# Altium schematic symbol library ASM2464PD.SchLib: 44 symbols
Pins are listed as number, name and electrical type; pins without a type are passive.

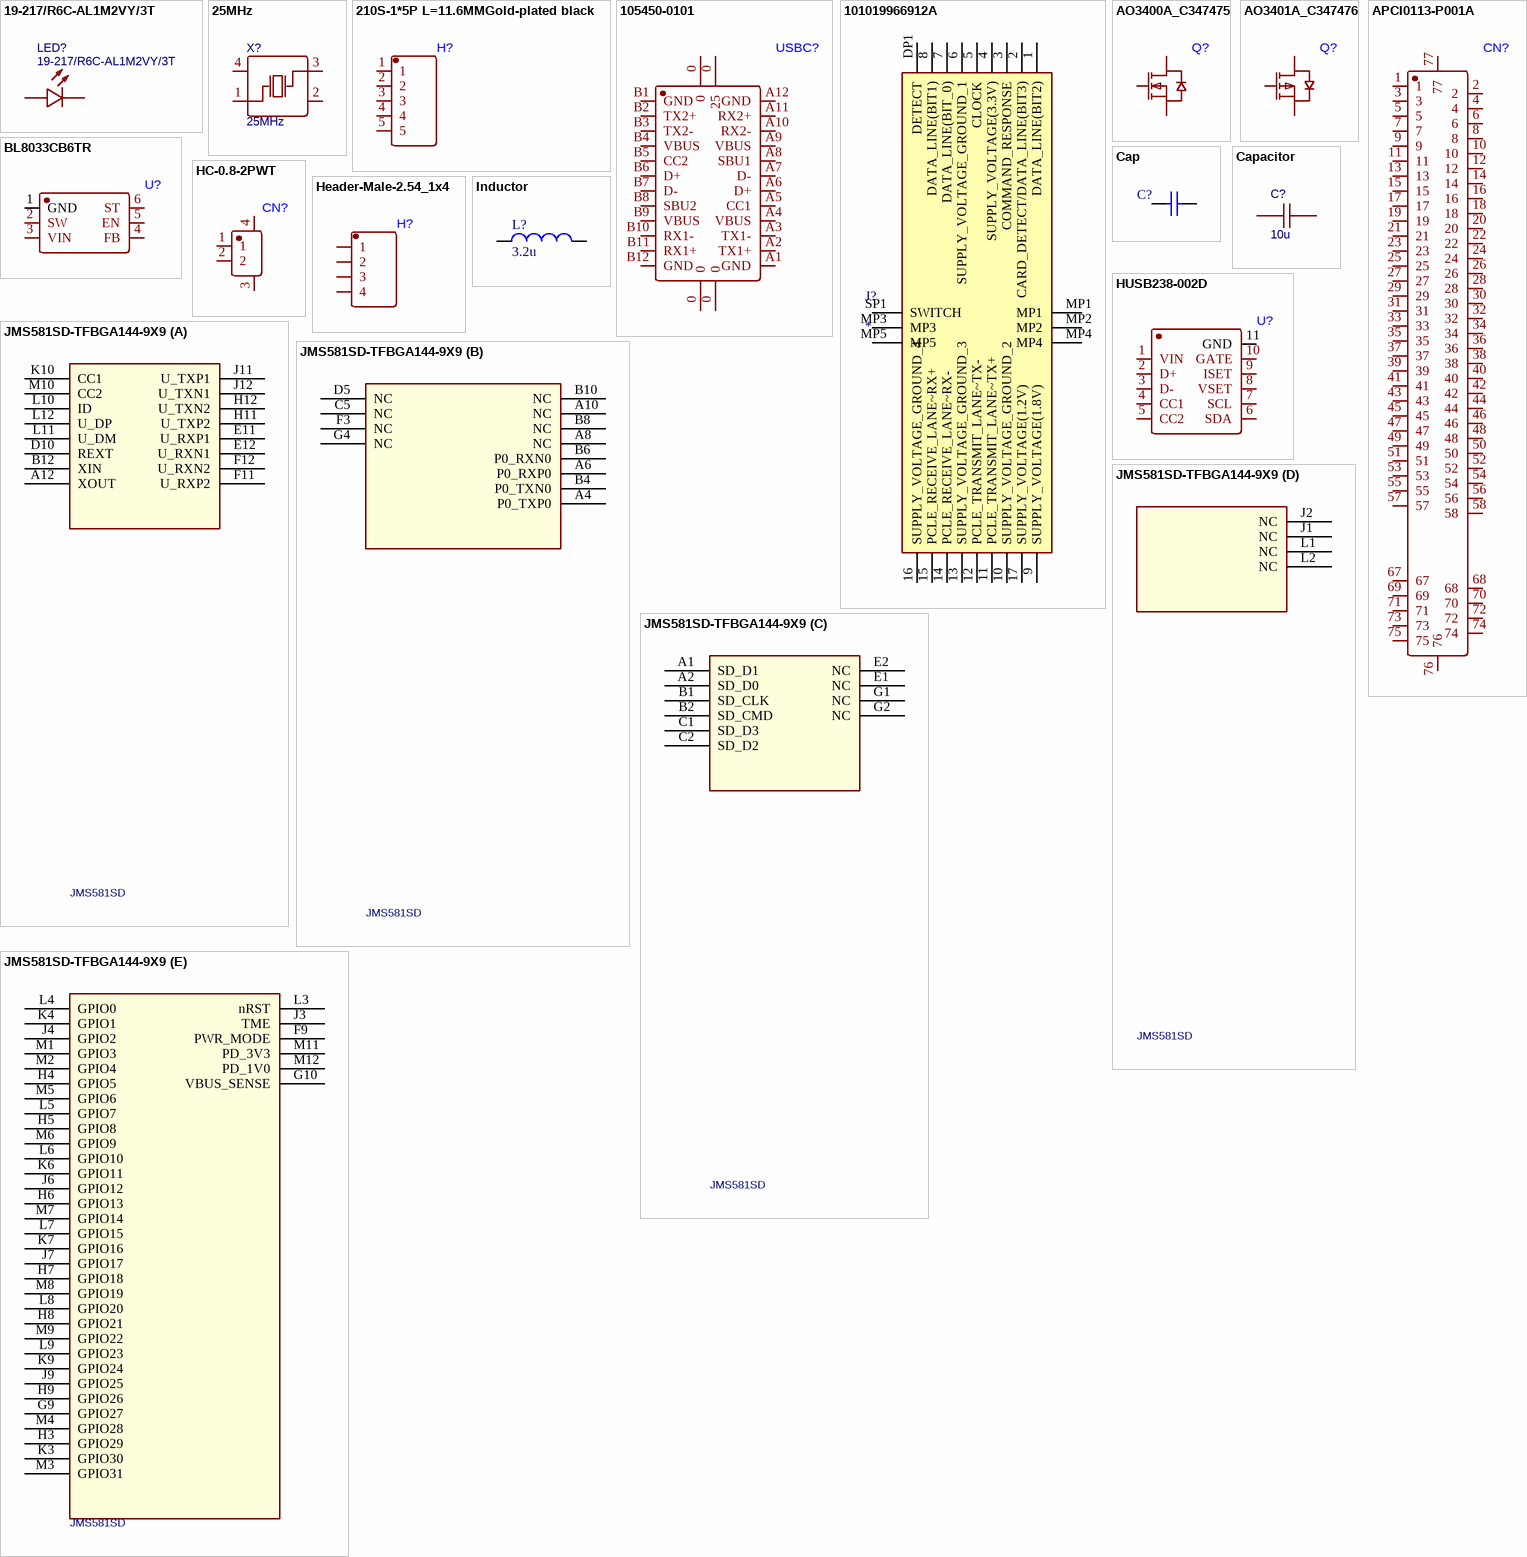
[diagram p0: symbols 19-217/R6C-AL1M2VY/3T to JMS581SD-TFBGA144-9X9]

## 19-217/R6C-AL1M2VY/3T
designator LED?
BOM_Manufacturer: EVERLIGHT; SMT Type: Extend; BOM_Supplier: LCSC; BOM_Manufacturer Part: 19-217/R6C-AL1M2VY/3T; image: //image.lceda.cn/szlcsc/C72044.jpg; BOM_Supplier Part: C72044; BOM_LCSC Assembly: Yes; spicePre: L; spiceSymbolName: 19-217/R6C-AL1M2VY/3T
footprint LED0603-R-RD
footprint LED0402-RD
pins: 1 A, 2 C

## 25MHz
designator X?
BOM_Manufacturer: YXC; BOM_Manufacturer Part: X322525MSB4SI; nameAlias: Frequency; SMT Type: Extend; BOM_Supplier: LCSC; BOM_Supplier Part: C13740; BOM_LCSC Assembly: Yes; spicePre: X; spiceSymbolName: X322525MSB4SI
footprint OSC-SMD_4P-L3.2-W2.5-BL
footprint Model Name (Model Description)
pins: 1 OSC1, 2 GND, 3 OSC2, 4 GND

## 210S-1*5P L=11.6MMGold-plated black
designator H?
footprint HDR-TH_5P-P2.54-V-M
pins: 1, 2, 3, 4, 5

## 105450-0101
designator USBC?
footprint USB-C-SMD_TYPE-C-USB-18
pins: 0, 0 25, 0, 0, A1 GND, A2 TX1+, A3 TX1-, A4 VBUS, A5 CC1, A6 D+, A7 D-, A8 SBU1, A9 VBUS, A10 RX2-, A11 RX2+, A12 GND, B1 GND, B2 TX2+, B3 TX2-, B4 VBUS, B5 CC2, B6 D+, B7 D-, B8 SBU2, B9 VBUS, B10 RX1-, B11 RX1+, B12 GND

## 101019966912A
designator J?
Connector; Manufacturer_Name: Amphenol; Manufacturer_Part_Number: 101019966912A; Datasheet Link: https://cdn.amphenol-icc.com/media/wysiwyg/files/drawing/c10101996.pdf; Height: 1.65mm
footprint 101019966912A
pins: 1 DATA_LINE(BIT2), 2 CARD_DETECT/DATA_LINE(BIT3), 3 COMMAND_RESPONSE, 4 SUPPLY_VOLTAGE(3.3V), 5 CLOCK, 6 SUPPLY_VOLTAGE_GROUND_1, 7 DATA_LINE(BIT_0), 8 DATA_LINE(BIT1), 9 SUPPLY_VOLTAGE(1.8V), 10 SUPPLY_VOLTAGE_GROUND_2, 11 PCLE_TRANSMIT_LANE~TX+, 12 PCLE_TRANSMIT_LANE~TX-, 13 SUPPLY_VOLTAGE_GROUND_3, 14 PCLE_RECEIVE_LANE~RX-, 15 PCLE_RECEIVE_LANE~RX+, 16 SUPPLY_VOLTAGE_GROUND_4, 17 SUPPLY_VOLTAGE(1.2V), DP1 DETECT, MP1, MP2, MP3, MP4, MP5, SP1 SWITCH

## AO3400A_C347475
designator Q?
footprint SOT-23-3_L2.9-W1.3-P1.90-LS2.4-BR
pins: 1 G, 2 S, 3 D

## AO3401A_C347476
designator Q?
footprint SOT-23_L2.9-W1.3-P1.90-LS2.4-BR
pins: 1 G, 2 S, 3 D

## APCI0113-P001A
designator CN?
footprint CONN-SMD_APCI0113-P001A
pins: 1, 2, 3, 4, 5, 6, 7, 8, 9, 10, 11, 12, 13, 14, 15, 16, 17, 18, 19, 20, 21, 22, 23, 24, 25, 26, 27, 28, 29, 30, 31, 32, 33, 34, 35, 36, 37, 38, 39, 40, 41, 42, 43, 44, 45, 46, 47, 48, 49, 50, 51, 52, 53, 54, 55, 56, 57, 58, 67, 68, 69, 70, 71, 72, 73, 74, 75, 76, 77

## BL8033CB6TR
designator U?
footprint SOT-23-6_L2.9-W1.6-P0.95-LS2.8-BR
pins: 1 GND, 2 SW, 3 VIN, 4 FB, 5 EN, 6 ST

## Cap
designator C?  (value not drawn)
Capacitor; Published: 8-Jun-2000; LatestRevisionDate: 17-Jul-2002; LatestRevisionNote: Re-released for DXP Platform.; PackageReference: RAD-0.3; Publisher: Altium Limited; PackageDescription: Radial Cap, Thru-Hole; 2 Leads; 0.3 in Pin Spacing
footprint C0603
pins: 1, 2

## Capacitor
designator C?, comment 10u
BOM_Manufacturer: SAMSUNG; BOM_Manufacturer Part: CL10B104KB8NNNC; nameAlias: Capacitance; BOM_Supplier: LCSC; BOM_Supplier Part: C1591; spicePre: C; spiceSymbolName: CL10B104KB8NNNC
footprint C0402
pins: 1, 2

## HC-0.8-2PWT
designator CN?
footprint CONN-SMD_2P-P0.80_HCTL_HC-0.8-2PWT
pins: 1, 2, 3, 4

## Header-Male-2.54_1x4
designator H?
footprint HDR-TH_4P-P2.54-V-M
pins: 1, 2, 3, 4

## HUSB238-002D
designator U?
footprint TDFN-10_L3.0-W3.0-P0.50-BL-EP
pins: 1 VIN, 2 D+, 3 D-, 4 CC1, 5 CC2, 6 SDA, 7 SCL, 8 VSET, 9 ISET, 10 GATE, 11 GND

## Inductor
designator L?, comment 3.2u
Inductor; Code_IEC: 1005; Published: 8-Jun-2000; LatestRevisionDate: 29-May-2009; LatestRevisionNote: IPC-7351 Footprint Added.; PackageReference: 0402-A; Publisher: Altium Limited; PackageDescription: Chip Inductor; Code_JEITA: 0402
footprint IND-SMD_L7.3-W6.8
footprint INDC1608L (Chip Inductor, Body 1.6x0.8mm, IPC High Density)
footprint 2029 (Chip Inductor, Body 2.0x1.2mm, IPC High Density)
footprint 0603 (Chip Inductor, Body 0.6x0.3mm, IPC High Density)
footprint INDC3216 (Chip Inductor, Body 3.2x1.6mm, IPC High Density)
footprint INDC4532 (Chip Inductor, Body 4.5x3.2mm, IPC High Density)
simulation model INDUCTOR (Inductor)
signal-integrity model Inductor
pins: 1, 2

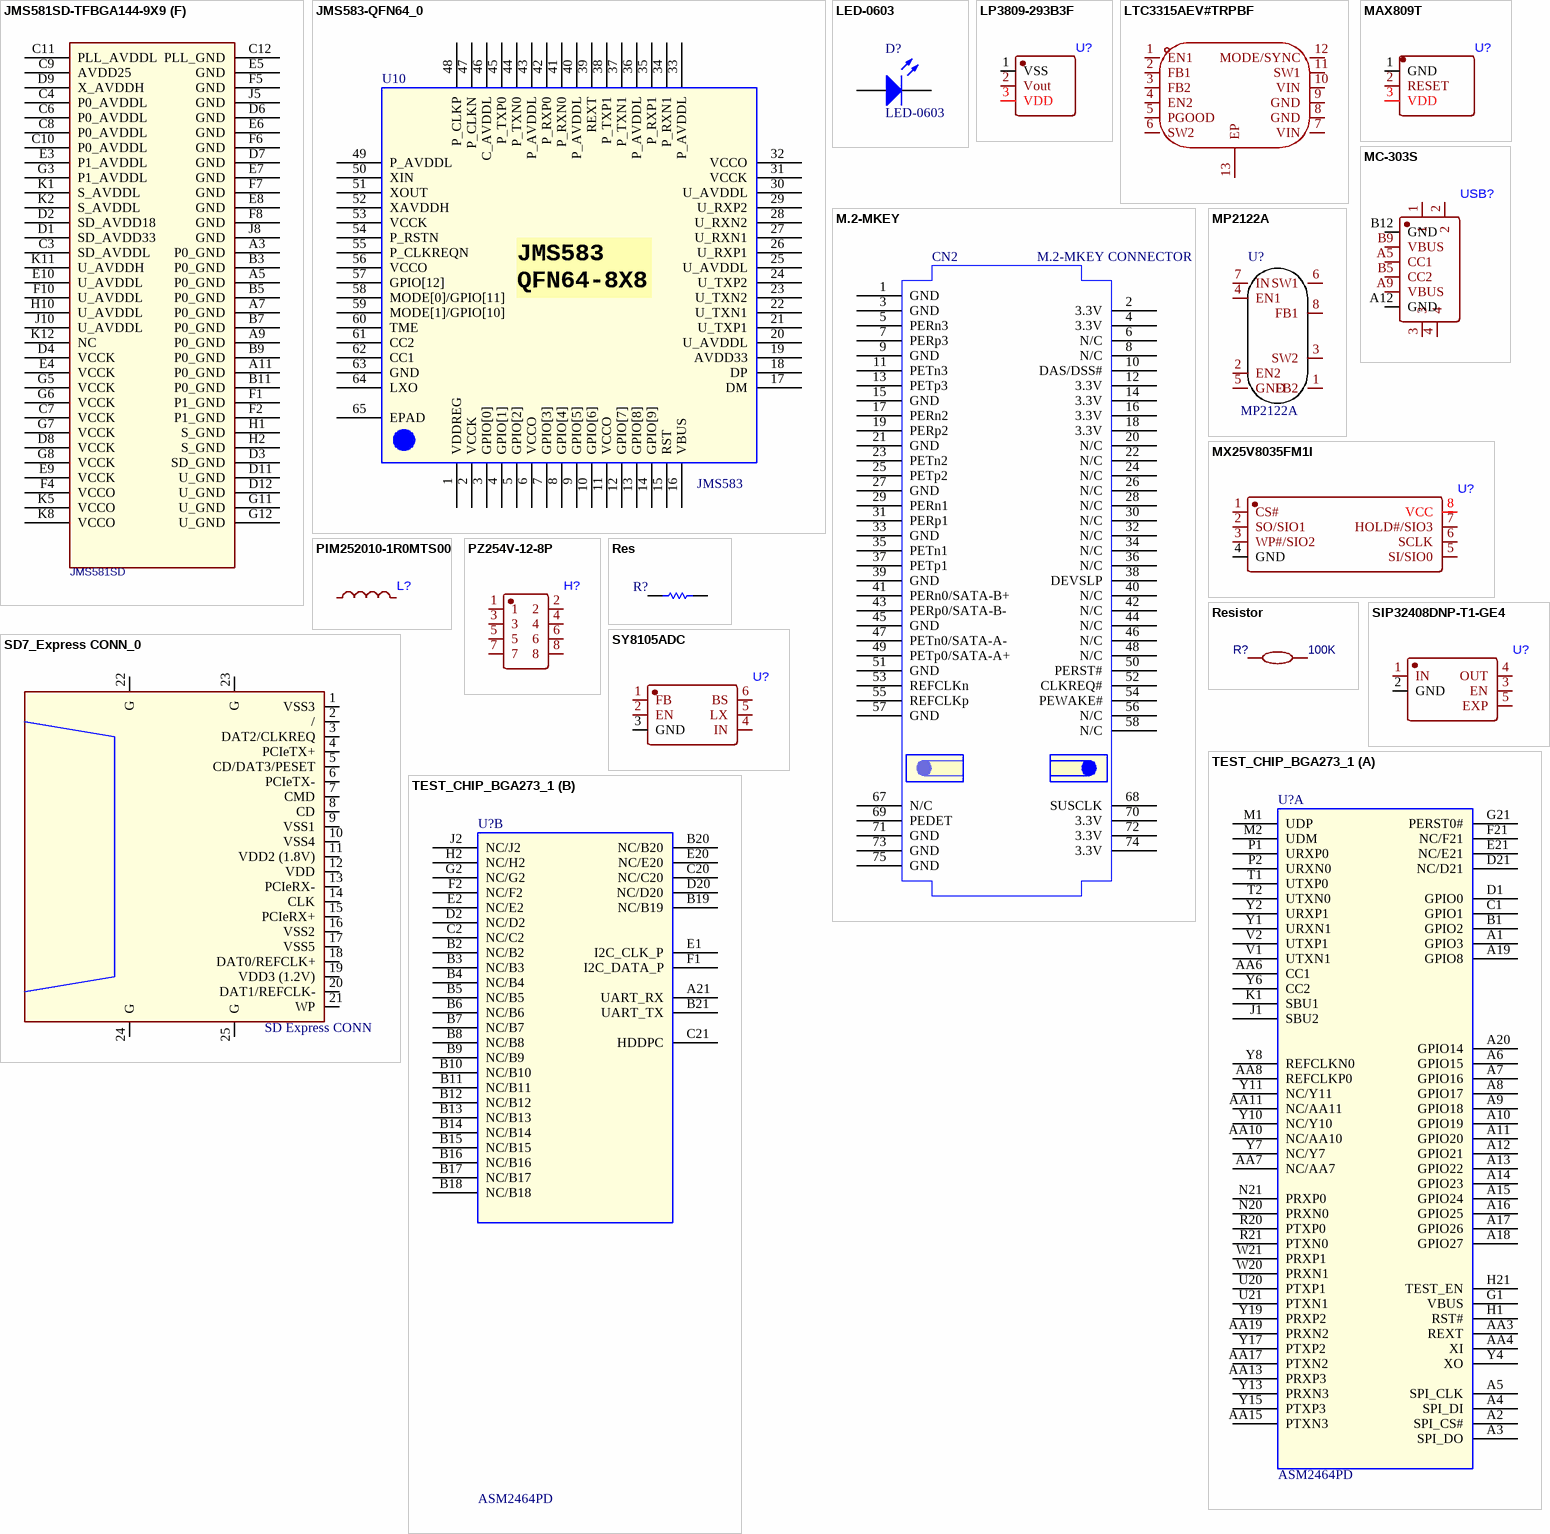
[diagram p1: symbols JMS581SD-TFBGA144-9X9 to TEST_CHIP_BGA273_1]

## JMS581SD-TFBGA144-9X9
designator U?, comment JMS581SD
SWAP_INFO: (S1+S2+S3+S4+S5+S6); SPLIT_INST: TRUE
footprint BGA144C75P12X12_900X900X117 (BGA, 144-Leads, Body 9.00x9.00mmx1.17mm, Pitch 0.75mm)
part A pins: A12 XOUT, B12 XIN, D10 REXT, E11 U_RXP1, E12 U_RXN1, F11 U_RXP2, F12 U_RXN2, H11 U_TXP2, H12 U_TXN2, J11 U_TXP1, J12 U_TXN1, K10 CC1, L10 ID, L11 U_DM, L12 U_DP, M10 CC2
part B pins: A4 P0_TXP0, A6 P0_RXP0, A8 NC, A10 NC, B4 P0_TXN0, B6 P0_RXN0, B8 NC, B10 NC, C5 NC, D5 NC, F3 NC, G4 NC
part C pins: A1 SD_D1, A2 SD_D0, B1 SD_CLK, B2 SD_CMD, C1 SD_D3, C2 SD_D2, E1 NC, E2 NC, G1 NC, G2 NC
part D pins: J1 NC, J2 NC, L1 NC, L2 NC
part E pins: F9 PWR_MODE, G9 GPIO27, G10 VBUS_SENSE, H3 GPIO29, H4 GPIO5, H5 GPIO8, H6 GPIO13, H7 GPIO18, H8 GPIO21, H9 GPIO26, J3 TME, J4 GPIO2, J6 GPIO12, J7 GPIO17, J9 GPIO25, K3 GPIO30, K4 GPIO1, K6 GPIO11, K7 GPIO16, K9 GPIO24, L3 nRST, L4 GPIO0, L5 GPIO7, L6 GPIO10, L7 GPIO15, L8 GPIO20, L9 GPIO23, M1 GPIO3, M2 GPIO4, M3 GPIO31, M4 GPIO28, M5 GPIO6, M6 GPIO9, M7 GPIO14, M8 GPIO19, M9 GPIO22, M11 PD_3V3, M12 PD_1V0
part F pins: A3 P0_GND, A5 P0_GND, A7 P0_GND, A9 P0_GND, A11 P0_GND, B3 P0_GND, B5 P0_GND, B7 P0_GND, B9 P0_GND, B11 P0_GND, C3 SD_AVDDL, C4 P0_AVDDL, C6 P0_AVDDL, C7 VCCK, C8 P0_AVDDL, C9 AVDD25, C10 P0_AVDDL, C11 PLL_AVDDL, C12 PLL_GND, D1 SD_AVDD33, D2 SD_AVDD18, D3 SD_GND, D4 VCCK, D6 GND, D7 GND, D8 VCCK, D9 X_AVDDH, D11 U_GND, D12 U_GND, E3 P1_AVDDL, E4 VCCK, E5 GND, E6 GND, E7 GND, E8 GND, E9 VCCK, E10 U_AVDDL, F1 P1_GND, F2 P1_GND, F4 VCCO, F5 GND, F6 GND, F7 GND, F8 GND, F10 U_AVDDL, G3 P1_AVDDL, G5 VCCK, G6 VCCK, G7 VCCK, G8 VCCK, G11 U_GND, G12 U_GND, H1 S_GND, H2 S_GND, H10 U_AVDDL, J5 GND, J8 GND, J10 U_AVDDL, K1 S_AVDDL, K2 S_AVDDL, K5 VCCO, K8 VCCO, K11 U_AVDDH, K12 NC

## JMS583-QFN64_0
designator U10, comment JMS583
PCB Footprint: QFN64-8X8-1
footprint QFN40P800X800X90_HS-65N (QFN, 64-Leads, Body 8.00x8.00mm, Pitch 0.40mm, Thermal Pad 4.46x4.46mm, IPC Medium Density)
pins: 1 VDDREG, 2 VCCK, 3 GPIO[0], 4 GPIO[1], 5 GPIO[2], 6 VCCO, 7 GPIO[3], 8 GPIO[4], 9 GPIO[5], 10 GPIO[6], 11 VCCO, 12 GPIO[7], 13 GPIO[8], 14 GPIO[9], 15 RST, 16 VBUS, 17 DM, 18 DP, 19 AVDD33, 20 U_AVDDL, 21 U_TXP1, 22 U_TXN1, 23 U_TXN2, 24 U_TXP2, 25 U_AVDDL, 26 U_RXP1, 27 U_RXN1, 28 U_RXN2, 29 U_RXP2, 30 U_AVDDL, 31 VCCK, 32 VCCO, 33 P_AVDDL, 34 P_RXN1, 35 P_RXP1, 36 P_AVDDL, 37 P_TXN1, 38 P_TXP1, 39 REXT, 40 P_AVDDL, 41 P_RXN0, 42 P_RXP0, 43 P_AVDDL, 44 P_TXN0, 45 P_TXP0, 46 C_AVDDL, 47 P_CLKN, 48 P_CLKP, 49 P_AVDDL, 50 XIN, 51 XOUT, 52 XAVDDH, 53 VCCK, 54 P_RSTN, 55 P_CLKREQN, 56 VCCO, 57 GPIO[12], 58 MODE[0]/GPIO[11], 59 MODE[1]/GPIO[10], 60 TME, 61 CC2, 62 CC1, 63 GND, 64 LXO, 65 EPAD
text: JMS583 / QFN64-8X8

## LED-0603
designator D?
Typical RED, GREEN, YELLOW, AMBER GaAs LED; Published: 8-Jun-2000; LatestRevisionDate: 17-Jul-2002; LatestRevisionNote: Re-released for DXP Platform.; PackageVersion: Feb-2002; PackageReference: 3.2X1.6X1.1; Publisher: Altium Limited; PackageDescription: SM LED; 2 Flat Leads
footprint LED0603_RED
pins: 1 A, 2 K

## LP3809-293B3F
designator U?
footprint SOT-23-3_L2.9-W1.3-P1.90-LS2.4-BR
pins: 1 VSS, 2 Vout, 3 VDD

## LTC3315AEV#TRPBF
designator U??  (value not drawn)
Manufacturer: ADI(亚德诺); Add into BOM: yes; Function: 降压型; Output Type: 固定; Input Voltage: 2.25V~5.5V; Output Voltage: 500mV~5.5V; Output Current (Max): 2A; Switching Frequency: 3MHz; Synchronous Rectification: 是; Number of Outputs: 2; Topology: 降压式; Switch tube (built-in/external): 内置; Symbol: LTC3315AEV#TRPBF; Device: LTC3315AEV#TRPBF; LCSC Part Name: LTC3315AEV#TRPBF; Supplier Part: C684471; Manufacturer Part: LTC3315AEV#TRPBF; Supplier Footprint: LQFN-12-EP(2x2); JLCPCB Part Class: Extended Part; Datasheet: https://atta.szlcsc.com/upload/public/pdf/source/20200727/C684471_DF630FB0903BFE14250A63036F5B7B2B.pdf; Supplier: LCSC; Convert to PCB: yes; Operating Temperature: -40℃~+125℃@(TJ)
footprint LQFN-12_L2.0-W2.0-P0.50-TL-EP0.7
3D model LQFN-12_L2.0-W2.0-H0.7-P0.50-TL-EP0.7
pins: 1 EN1, 2 FB1, 3 FB2, 4 EN2, 5 PGOOD, 6 SW2, 7 VIN, 8 GND, 9 GND, 10 VIN, 11 SW1, 12 MODE/SYNC, 13 EP

## M.2-MKEY
designator CN2, comment M.2-MKEY CONNECTOR
M2.-MKEY connector; CRITICAL_PART: N; MANUFACTURER: FOXCONN; MANUFACTURER_PN: AS0BC2X-S40BX-7H; PART_NUMBER: 12G103002250; PART_TYPE: 12_CON; PCB Footprint: NGFP75P-2; TABLES: 12; OPTIONAL: I; CLASS: Connector; COMPONENT_NAME: M2.-MKEY connector; CREATED_DATE: 2019/1/30; DATABASE_UPDATE: 2019/1/30; DATASHEET: T:\division\Division_Share\JM_CIS_Database\05_Datasheet\12_Connector\12G103002250.pdf; ELECTRIC_SPEC: N/A; PACKAGE_TYPE: SMD; QVL_APPROVE: N; TOLERANCE: N/A
footprint CONN-SMD_APCI0113-P001A
pins: 1 GND, 2 3.3V, 3 GND, 4 3.3V, 5 PERn3, 6 N/C, 7 PERp3, 8 N/C, 9 GND, 10 DAS/DSS#, 11 PETn3, 12 3.3V, 13 PETp3, 14 3.3V, 15 GND, 16 3.3V, 17 PERn2, 18 3.3V, 19 PERp2, 20 N/C, 21 GND, 22 N/C, 23 PETn2, 24 N/C, 25 PETp2, 26 N/C, 27 GND, 28 N/C, 29 PERn1, 30 N/C, 31 PERp1, 32 N/C, 33 GND, 34 N/C, 35 PETn1, 36 N/C, 37 PETp1, 38 DEVSLP, 39 GND, 40 N/C, 41 PERn0/SATA-B+, 42 N/C, 43 PERp0/SATA-B-, 44 N/C, 45 GND, 46 N/C, 47 PETn0/SATA-A-, 48 N/C, 49 PETp0/SATA-A+, 50 PERST#, 51 GND, 52 CLKREQ#, 53 REFCLKn, 54 PEWAKE#, 55 REFCLKp, 56 N/C, 57 GND, 58 N/C, 67 N/C, 68 SUSCLK, 69 PEDET, 70 3.3V, 71 GND, 72 3.3V, 73 GND, 74 3.3V, 75 GND

## MAX809T
designator U?
footprint SOT-23-3_L2.9-W1.3-P1.90-LS2.4-BR
pins: 1 GND, 2 RESET, 3 VDD

## MC-303S
designator USB?
footprint USB-C-SMD_MC-303S
pins: 1, 2, 3, 4, A5 CC1, A9 VBUS, A12 GND, B5 CC2, B9 VBUS, B12 GND

## MP2122A
designator U?, comment Device: MP2122A  (hidden comment: MP2122GJ-LF-Z)
6V、2A、双路低静态电流、同步降压调节器; Add into BOM: yes; Name: MP2122GJ-LF-Z; Symbol: MP2122GJ-LF-Z; LCSC Part Name: MP2122GJ-LF-Z; Supplier Part: C9900006157; Manufacturer Part: MP2122GJ-LF-Z; Supplier Footprint: SOT23-8; JLCPCB Part Class: Extended Part; Supplier: LCSC; Convert to PCB: yes
footprint TSOT-23-8_L2.9-W1.6-P0.65-LS2.8-BL
3D model TSOT-23-8_L2.9-W1.6-H1.1-LS2.8-P0.65
pins: 1 FB2, 2 EN2, 3 SW2, 4 EN1, 5 GND, 6 SW1, 7 IN, 8 FB1

## MX25V8035FM1I
designator U?
footprint SOP-8_L4.9-W3.9-P1.27-LS6.0-BL
pins: 1 CS#, 2 SO/SIO1, 3 WP#/SIO2, 4 GND, 5 SI/SIO0, 6 SCLK, 7 HOLD#/SIO3, 8 VCC

## PIM252010-1R0MTS00
designator L?
footprint IND-SMD_L2.5-W2.0-B
pins: 1, 2

## PZ254V-12-8P
designator H?
footprint HDR-TH_8P-P2.54-V-M-R2-C4-S2.54
pins: 1, 2, 3, 4, 5, 6, 7, 8

## Res
designator R?  (value not drawn)
Resistor; Published: 8-Jun-2000; LatestRevisionDate: 17-Jul-2002; LatestRevisionNote: Re-released for DXP Platform.; PackageReference: AXIAL-0.3; Publisher: Altium Limited; PackageDescription: Axial Device, Thru-Hole; 2 Leads; 0.3 in Pin Spacing
footprint R0603
pins: 1, 2

## Resistor
designator R?, comment 100K
BOM_Manufacturer: UniOhm; BOM_Manufacturer Part: 0603WAF1001T5E; nameAlias: Resistance (Ohms); SMT Type: Basic; BOM_Supplier: LCSC; BOM_LCSC Assembly: Yes; BOM_Supplier Part: C21190; spicePre: R; spiceSymbolName: 0603WAF1001T5E
footprint R0402
pins: 1, 2

## SD7_Express CONN_0
designator CN?, comment SD Express CONN
footprint SD7.1
pins: 1 VSS3, 2 /, 3 DAT2/CLKREQ, 4 PCIeTX+, 5 CD/DAT3/PESET, 6 PCIeTX-, 7 CMD, 8 CD, 9 VSS1, 10 VSS4, 11 VDD2 (1.8V), 12 VDD, 13 PCIeRX-, 14 CLK, 15 PCIeRX+, 16 VSS2, 17 VSS5, 18 DAT0/REFCLK+, 19 VDD3 (1.2V), 20 DAT1/REFCLK-, 21 WP, 22 G, 23 G, 24 G, 25 G

## SIP32408DNP-T1-GE4
designator U?
footprint SIP32408DNP-T1-GE4
pins: 1 IN, 2 GND, 3 EN, 4 OUT, 5 EXP

## SY8105ADC
designator U?
footprint TSOT-23-6_L2.9-W1.6-P0.95-LS2.8-BR
pins: 1 FB, 2 EN, 3 GND, 4 IN, 5 LX, 6 BS

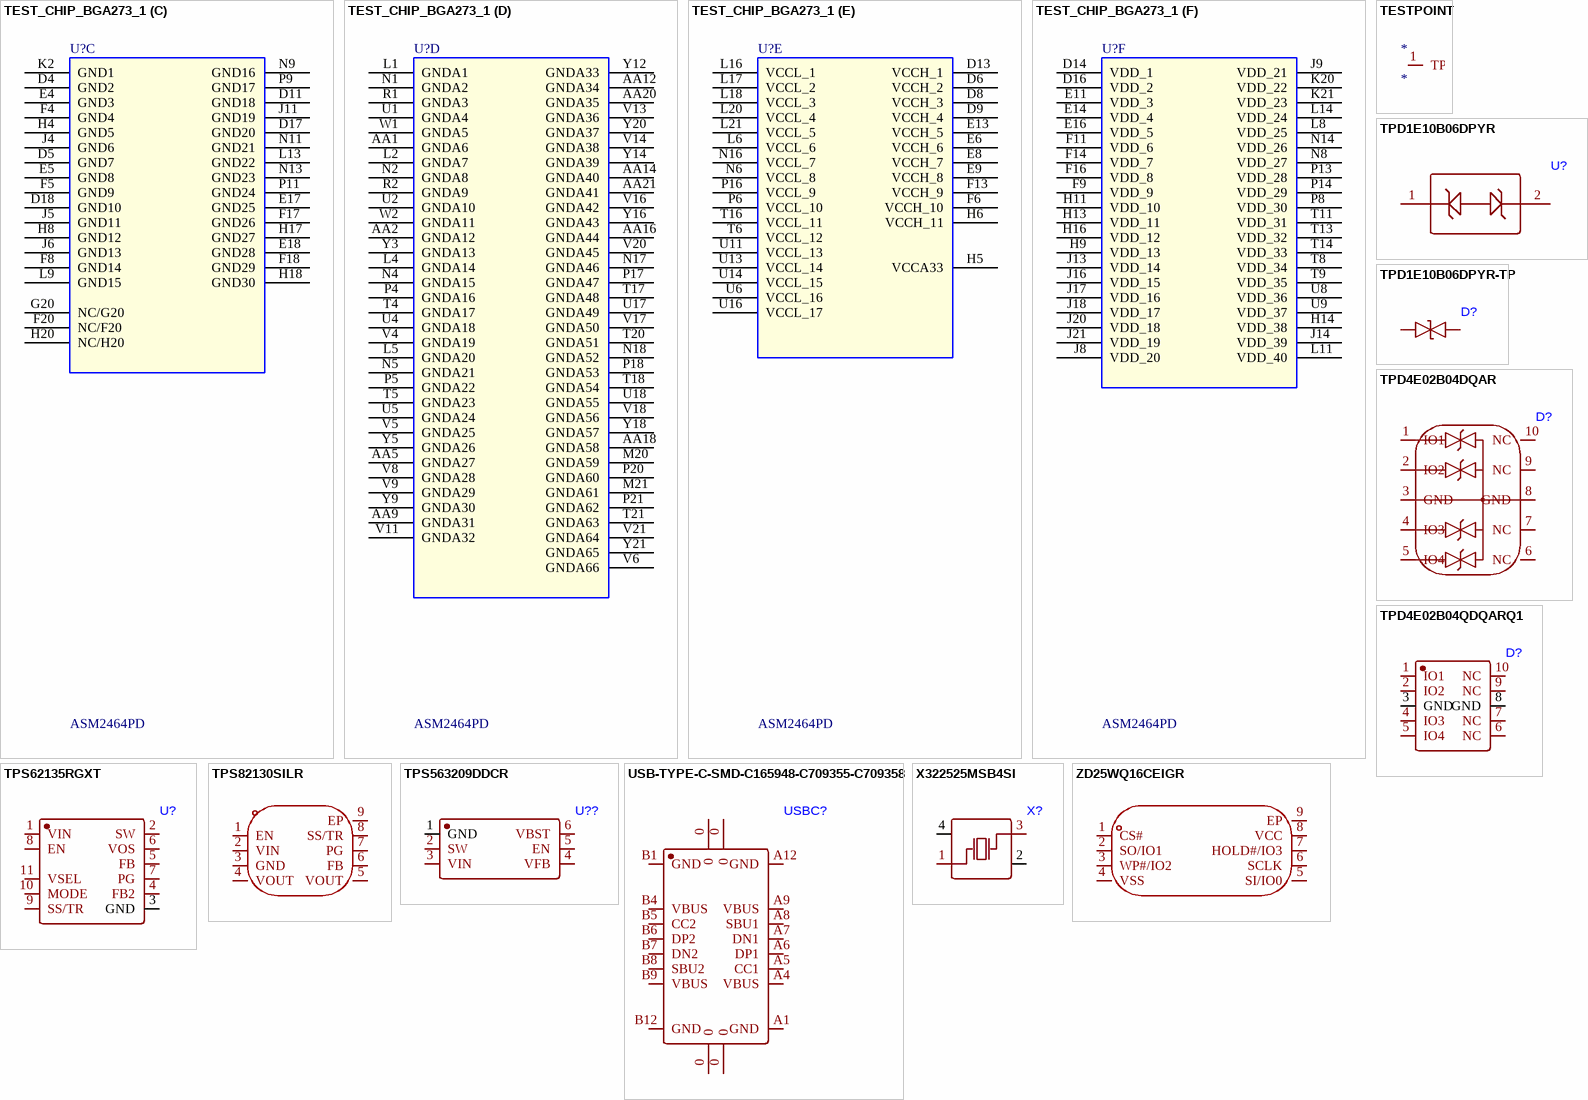
[diagram p2: symbols TEST_CHIP_BGA273_1 to ZD25WQ16CEIGR]

## TEST_CHIP_BGA273_1
designator U?, comment ASM2464PD
ASMEDIA; Part Number: temp_T_004530; Manufacture: N; Component_Name: TEST CHIP BGA 273; Data_Sheet: J:\DataSheet\02-CHIPSET\temp_T_004530.zip; Device: s_bga_273p_18_26_394x394; Symbol_Preview: http://tp-caevm-01/ET_Main/FpPre.aspx?PN=temp_T_004530&LIB=MBPOOL; Package_Type: SMD; Part Type: 02CHIPSET\AD; Optional: N/A; Subsystem_ID: N/A; Colay_Group: N/A; Colay_Alternate: N/A; PCB Footprint: s_bga_273p_18_26_394x394
footprint BGA273C46P21X21_1000X1000X98 (BGA, 273-Leads, Body 10.00x10.00mmx0.98mm, Pitch 0.46mm)
part A pins: A1 GPIO3, A2 SPI_CS#, A3 SPI_DO, A4 SPI_DI, A5 SPI_CLK, A6 GPIO15, A7 GPIO16, A8 GPIO17, A9 GPIO18, A10 GPIO19, A11 GPIO20, A12 GPIO21, A13 GPIO22, A14 GPIO23, A15 GPIO24, A16 GPIO25, A17 GPIO26, A18 GPIO27, A19 GPIO8, A20 GPIO14, AA3 REXT, AA4 XI, AA6 CC1, AA7 NC/AA7, AA8 REFCLKP0, AA10 NC/AA10, AA11 NC/AA11, AA13 PRXP3, AA15 PTXN3, AA17 PTXN2, AA19 PRXN2, B1 GPIO2, C1 GPIO1, D1 GPIO0, D21 NC/D21, E21 NC/E21, F21 NC/F21, G1 VBUS, G21 PERST0#, H1 RST#, H21 TEST_EN, J1 SBU2, K1 SBU1, M1 UDP, M2 UDM, N20 PRXN0, N21 PRXP0, P1 URXP0, P2 URXN0, R20 PTXP0, R21 PTXN0, T1 UTXP0, T2 UTXN0, U20 PTXP1, U21 PTXN1, V1 UTXN1, V2 UTXP1, W20 PRXN1, W21 PRXP1, Y1 URXN1, Y2 URXP1, Y4 XO, Y6 CC2, Y7 NC/Y7, Y8 REFCLKN0, Y10 NC/Y10, Y11 NC/Y11, Y13 PRXN3, Y15 PTXP3, Y17 PTXP2, Y19 PRXP2
part B pins: A21 UART_RX, B2 NC/B2, B3 NC/B3, B4 NC/B4, B5 NC/B5, B6 NC/B6, B7 NC/B7, B8 NC/B8, B9 NC/B9, B10 NC/B10, B11 NC/B11, B12 NC/B12, B13 NC/B13, B14 NC/B14, B15 NC/B15, B16 NC/B16, B17 NC/B17, B18 NC/B18, B19 NC/B19, B20 NC/B20, B21 UART_TX, C2 NC/C2, C20 NC/C20, C21 HDDPC, D2 NC/D2, D20 NC/D20, E1 I2C_CLK_P, E2 NC/E2, E20 NC/E20, F1 I2C_DATA_P, F2 NC/F2, G2 NC/G2, H2 NC/H2, J2 NC/J2
part C pins: D4 GND2, D5 GND7, D11 GND18, D17 GND20, D18 GND10, E4 GND3, E5 GND8, E17 GND25, E18 GND28, F4 GND4, F5 GND9, F8 GND14, F17 GND26, F18 GND29, F20 NC/F20, G20 NC/G20, H4 GND5, H8 GND12, H17 GND27, H18 GND30, H20 NC/H20, J4 GND6, J5 GND11, J6 GND13, J11 GND19, K2 GND1, L9 GND15, L13 GND22, N9 GND16, N11 GND21, N13 GND23, P9 GND17, P11 GND24
part D pins: AA1 GNDA6, AA2 GNDA12, AA5 GNDA27, AA9 GNDA31, AA12 GNDA34, AA14 GNDA40, AA16 GNDA44, AA18 GNDA58, AA20 GNDA35, AA21 GNDA41, L1 GNDA1, L2 GNDA7, L4 GNDA14, L5 GNDA20, M20 GNDA59, M21 GNDA61, N1 GNDA2, N2 GNDA8, N4 GNDA15, N5 GNDA21, N17 GNDA46, N18 GNDA52, P4 GNDA16, P5 GNDA22, P17 GNDA47, P18 GNDA53, P20 GNDA60, P21 GNDA62, R1 GNDA3, R2 GNDA9, T4 GNDA17, T5 GNDA23, T17 GNDA48, T18 GNDA54, T20 GNDA51, T21 GNDA63, U1 GNDA4, U2 GNDA10, U4 GNDA18, U5 GNDA24, U17 GNDA49, U18 GNDA55, V4 GNDA19, V5 GNDA25, V6 GNDA66, V8 GNDA28, V9 GNDA29, V11 GNDA32, V13 GNDA36, V14 GNDA38, V16 GNDA42, V17 GNDA50, V18 GNDA56, V20 GNDA45, V21 GNDA64, W1 GNDA5, W2 GNDA11, Y3 GNDA13, Y5 GNDA26, Y9 GNDA30, Y12 GNDA33, Y14 GNDA39, Y16 GNDA43, Y18 GNDA57, Y20 GNDA37, Y21 GNDA65
part E pins: D6 VCCH_2, D8 VCCH_3, D9 VCCH_4, D13 VCCH_1, E6 VCCH_6, E8 VCCH_7, E9 VCCH_8, E13 VCCH_5, F6 VCCH_10, F13 VCCH_9, H5 VCCA33, H6 VCCH_11, L6 VCCL_6, L16 VCCL_1, L17 VCCL_2, L18 VCCL_3, L20 VCCL_4, L21 VCCL_5, N6 VCCL_8, N16 VCCL_7, P6 VCCL_10, P16 VCCL_9, T6 VCCL_12, T16 VCCL_11, U6 VCCL_16, U11 VCCL_13, U13 VCCL_14, U14 VCCL_15, U16 VCCL_17
part F pins: D14 VDD_1, D16 VDD_2, E11 VDD_3, E14 VDD_4, E16 VDD_5, F9 VDD_9, F11 VDD_6, F14 VDD_7, F16 VDD_8, H9 VDD_13, H11 VDD_10, H13 VDD_11, H14 VDD_38, H16 VDD_12, J8 VDD_20, J9 VDD_21, J13 VDD_14, J14 VDD_39, J16 VDD_15, J17 VDD_16, J18 VDD_17, J20 VDD_18, J21 VDD_19, K20 VDD_22, K21 VDD_23, L8 VDD_25, L11 VDD_40, L14 VDD_24, N8 VDD_27, N14 VDD_26, P8 VDD_30, P13 VDD_28, P14 VDD_29, T8 VDD_34, T9 VDD_35, T11 VDD_31, T13 VDD_32, T14 VDD_33, U8 VDD_36, U9 VDD_37

## TESTPOINT
designator *
footprint TESTPOINT
pins: 1 TP

## TPD1E10B06DPYR
designator U?
footprint X1SON-2_L1.0-W0.6-P0.65-BI
pins: 1, 2

## TPD1E10B06DPYR-TP
designator D?
footprint X1SON-2_L1.0-W0.6-P0.65-BI
pins: 1, 2

## TPD4E02B04DQAR
designator D?
footprint USON-10_L2.5-W1.0-P0.50-BL
pins: 1 IO1, 2 IO2, 3 GND, 4 IO3, 5 IO4, 6 NC, 7 NC, 8 GND, 9 NC, 10 NC

## TPD4E02B04QDQARQ1
designator D?
footprint USON-10_L2.5-W1.0-P0.50-BL
pins: 1 IO1, 2 IO2, 3 GND, 4 IO3, 5 IO4, 6 NC, 7 NC, 8 GND, 9 NC, 10 NC

## TPS62135RGXT
designator U?
footprint VQFN-11_L2.0-W3.0-P0.50-L_TI_RGX
pins: 1 VIN, 2 SW, 3 GND, 4 FB2, 5 FB, 6 VOS, 7 PG, 8 EN, 9 SS/TR, 10 MODE, 11 VSEL

## TPS82130SILR
designator U??  (value not drawn)
Manufacturer: TI(德州仪器); Add into BOM: yes; Symbol: TPS82130SILR; Device: TPS82130SILR; LCSC Part Name: TPS82130SILR; Supplier Part: C473914; Manufacturer Part: TPS82130SILR; Supplier Footprint: USIP-8; JLCPCB Part Class: Extended Part; Datasheet: https://www.ti.com/cn/lit/gpn/tps82130; Supplier: LCSC; Convert to PCB: yes
footprint USIP-8_L3.0-W2.8-P0.65-TL-EP
3D model USIP-8_L3.0-W2.8-P0.65-TL-EP
pins: 1 EN, 2 VIN, 3 GND, 4 VOUT, 5 VOUT, 6 FB, 7 PG, 8 SS/TR, 9 EP

## TPS563209DDCR
designator U??
footprint SOT-23-6_L2.9-W1.6-P0.95-LS2.8-BR
pins: 1 GND, 2 SW, 3 VIN, 4 VFB, 5 EN, 6 VBST

## USB-TYPE-C-SMD-C165948-C709355-C709358
designator USBC?
USB-TYPE-C-SMD-C165948-C709355-C709358
footprint USB-TYPE-C-SMD-C165948-C709355-C709358
pins: 0, 0, 0, 0, A1 GND, A4 VBUS, A5 CC1, A6 DP1, A7 DN1, A8 SBU1, A9 VBUS, A12 GND, B1 GND, B4 VBUS, B5 CC2, B6 DP2, B7 DN2, B8 SBU2, B9 VBUS, B12 GND

## X322525MSB4SI
designator X?
footprint OSC-SMD_4P-L3.2-W2.5-BL
pins: 1 OSC1, 2 GND, 3 OSC2, 4 GND

## ZD25WQ16CEIGR
designator U??  (value not drawn)
Manufacturer: Zetta(澜智); Add into BOM: yes; Interface Type: SPI; Memory Size: 16Mbit; Clock Frequency (fc): 104MHz; Supply Voltage: 1.65V~3.6V; Page Programming Time (Tpp): 2ms; Block Erase Time (tBE): 12ms@(32KB); Data Retention - TDR (Year): 20年; Symbol: ZD25WQ16CEIGR; Device: ZD25WQ16CEIGR; LCSC Part Name: ZD25WQ16CEIGR; Supplier Part: C7304007; Manufacturer Part: ZD25WQ16CEIGR; Supplier Footprint: USON-8(2x3); JLCPCB Part Class: Extended Part; Datasheet: https://atta.szlcsc.com/upload/public/pdf/source/20230227/377F8688CFA586E30BAF3C1DACB7B6CC.pdf; Supplier: LCSC; Convert to PCB: yes; Operating Temperature: -40℃~+85℃
footprint USON-8_L3.0-W2.0-P0.50-BL-EP
3D model USON-8_L2-W3-H0.6X0.5P
pins: 1 CS#, 2 SO/IO1, 3 WP#/IO2, 4 VSS, 5 SI/IO0, 6 SCLK, 7 HOLD#/IO3, 8 VCC, 9 EP